# Altium schematic symbol library Display.SchLib: 1 symbol
Pins are listed as number, name and electrical type; pins without a type are passive.

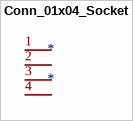
[diagram p0: symbol Conn_01x04_Socket]

## Conn_01x04_Socket
designator *
pins: 1 Pin_1, 2 Pin_2, 3 Pin_3, 4 Pin_4